# EAGLE library part NOKİA5110LCD (library water_level_indicator)
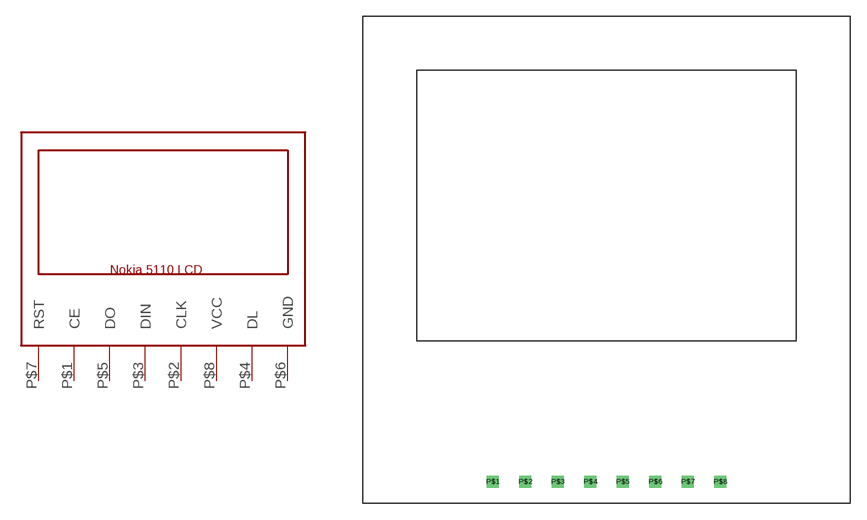
[diagram p0: symbol with the pads of NOKİA5110LCD; footprint NOKİA5110LCD]

Designator prefix -

## NOKİA5110LCD  [NOKİA5110LCD]
P$1  CE
P$2  CLK
P$3  DIN
P$4  DL
P$5  DO
P$6  GND
P$7  RST
P$8  VCC

## Footprint NOKİA5110LCD (pad centres in mm)
drill 0.6 square: P$1 -13,-13; P$2 -10,-13; P$3 -7,-13; P$4 -4,-13; P$5 -1,-13; P$6 2,-13; P$7 5,-13; P$8 8,-13